# EAGLE library part AP7332 (library KwanSystems)
Dual 300mA LDO Regulator http://www.diodes.com/datasheets/AP7332.pdf
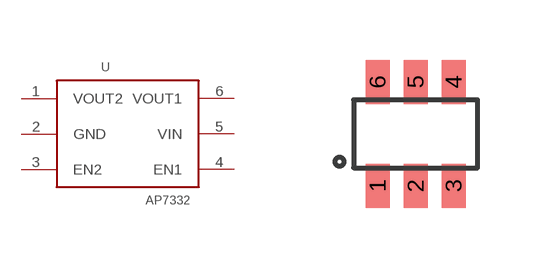
[diagram p1: symbol with the pads of SOT-23-6; footprint SOT-23-6]

Designator prefix -

## AP7332  [SOT-23-6]
1  VOUT2
2  GND
3  EN2
4  EN1
5  VIN
6  VOUT1

## Footprint SOT-23-6 (pad centres in mm)
smd 0.6 x 1.1: 1 -0.95,-1.3; 2 0,-1.3; 3 0.95,-1.3; 4 0.95,1.3; 5 0,1.3; 6 -0.95,1.3